# EAGLE library part SAA1064 (library saa1064)
4-digit LED-driver with I2C-Bus interface
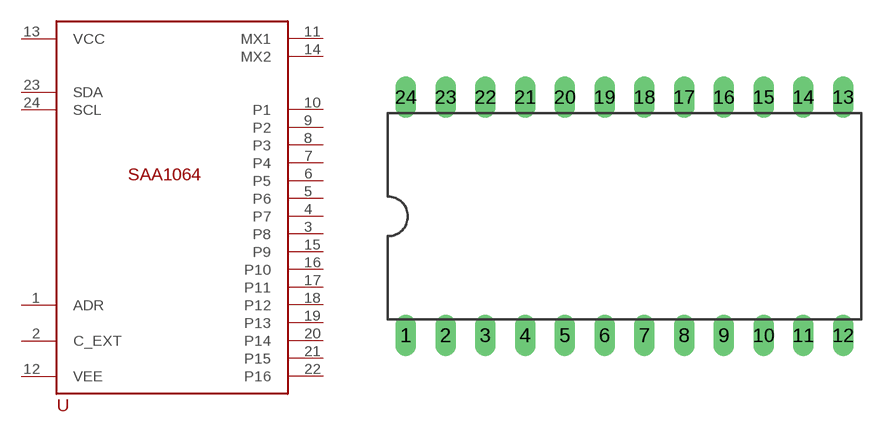
[diagram p0: symbol with the pads of DIL24-6; footprint DIL24-6]

Designator prefix -

## SAA1064  [DIL24-6]
1  ADR  in
2  C_EXT  in
3  P8  in
4  P7  in
5  P6  in
6  P5  in
7  P4  in
8  P3
9  P2
10  P1
11  MX1  in
12  VEE  pwr
13  VCC  pwr
14  MX2  in
15  P9  in
16  P10  in
17  P11  in
18  P12  in
19  P13  in
20  P14  in
21  P15  in
22  P16  in
23  SDA  pwr
24  SCL  pwr

## Footprint DIL24-6 (pad centres in mm)
Dual In Line Package 0.6 inch
drill 0.813 long: 1 -13.97,-7.62; 2 -11.43,-7.62; 3 -8.89,-7.62; 4 -6.35,-7.62; 5 -3.81,-7.62; 6 -1.27,-7.62; 7 1.27,-7.62; 8 3.81,-7.62; 9 6.35,-7.62; 10 8.89,-7.62; 11 11.43,-7.62; 12 13.97,-7.62; 13 13.97,7.62; 14 11.43,7.62; 15 8.89,7.62; 16 6.35,7.62; 17 3.81,7.62; 18 1.27,7.62; 19 -1.27,7.62; 20 -3.81,7.62; 21 -6.35,7.62; 22 -8.89,7.62; 23 -11.43,7.62; 24 -13.97,7.62